# Altium schematic symbol library sonarlib.SchLib: 2 symbols
Pins are listed as number, name and electrical type; pins without a type are passive.

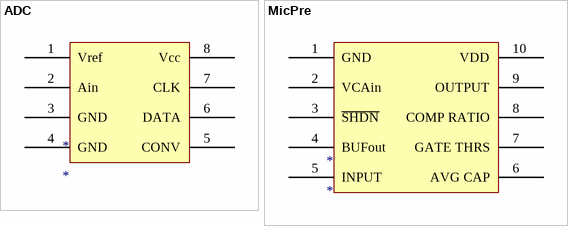
[diagram p0: symbols ADC to MicPre]

## ADC
designator *
pins: 1 Vref, 2 Ain, 3 GND, 4 GND, 5 CONV, 6 DATA, 7 CLK, 8 Vcc

## MicPre
designator *
pins: 1 GND, 2 VCAin, 3 ~{SHDN}, 4 BUFout, 5 INPUT, 6 AVG CAP, 7 GATE THRS, 8 COMP RATIO, 9 OUTPUT, 10 VDD